# EAGLE library part SDR-SMBUS-TAPPING (library dimm)
SMBUS tapping at 168 Pin SDR SDRAM Double Inline Memory Module half of JEDEC MO-161f
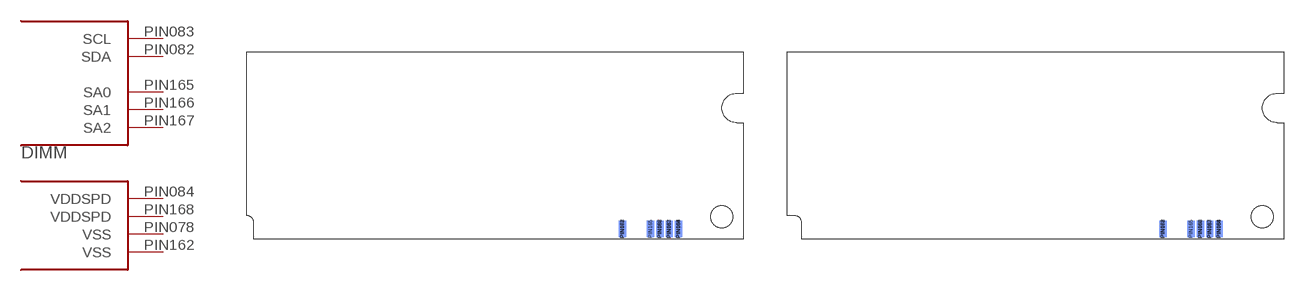
[diagram p4: symbol with the pads of HALF-168PIN-SDRAM-D1-D7; footprints HALF-168PIN-SDRAM-D1-D7, HALF-168PIN-SDRAM-D2-D8]

Designator prefix DIMM; gates =I2C-3ADD PWR=VCC2-2GND

## SDR-SMBUS-TAPPING5,0V  [HALF-168PIN-SDRAM-D1-D7]
PIN078  PWR:VSS  pwr
PIN082  :SDA
PIN083  :SCL
PIN084  PWR:VDDSPD  pwr
PIN162  PWR:VSS  pwr
PIN165  :SA0  in
PIN166  :SA1  in
PIN167  :SA2  in
PIN168  PWR:VDDSPD  pwr

## SDR-SMBUS-TAPPING3,3V  [HALF-168PIN-SDRAM-D2-D8]
Pads as for HALF-168PIN-SDRAM-D1-D7

## Footprint HALF-168PIN-SDRAM-D1-D7 (pad centres in mm)
SMBUS tapping at 168 Pin 5.0V SDR SDRAM Double Inline Memory Module half of JEDEC MO-161f
smd 1 x 2.3: PIN078 50.165,1.35; PIN082 55.245,1.35; PIN083 56.515,1.35; PIN084 57.785,1.35
smd 1 x 2.3 bottom: PIN162 50.165,1.35; PIN165 53.975,1.35; PIN166 55.245,1.35; PIN167 56.515,1.35; PIN168 57.785,1.35

## Footprint HALF-168PIN-SDRAM-D2-D8 (pad centres in mm)
SMBUS tapping at 168 Pin 3.3V SDR SDRAM Double Inline Memory Module half of JEDEC MO-161f
smd 1 x 2.3: PIN078 50.165,1.35; PIN082 55.245,1.35; PIN083 56.515,1.35; PIN084 57.785,1.35
smd 1 x 2.3 bottom: PIN162 50.165,1.35; PIN165 53.975,1.35; PIN166 55.245,1.35; PIN167 56.515,1.35; PIN168 57.785,1.35